# Altium schematic symbol library SIVAGO.SchLib: 1 symbol
Pins are listed as number, name and electrical type; pins without a type are passive.

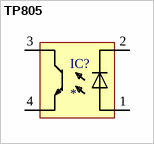
[diagram p0: symbol TP805]

## TP805
designator IC?
pins: 1, 2, 3, 4